# EAGLE library part FLE-108-01-G-DV-A (library FLE-108-01-G-DV-A)
Check prices <https://pricing.snapeda.com/parts/FLE-108-01-G-DV-A/Samtec/view-part?ref=eda>
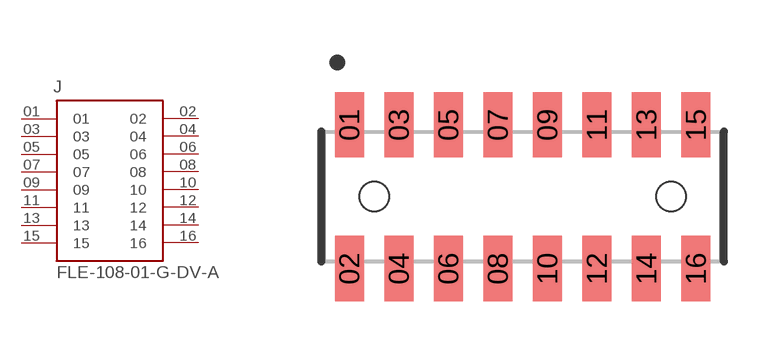
[diagram p0: symbol with the pads of SAMTEC_FLE-108-01-G-DV-A; footprint SAMTEC_FLE-108-01-G-DV-A]

Designator prefix J

## FLE-108-01-G-DV-A (AVAILABILITY: Bad; DESCRIPTION: 16 Position Receptacle Connector Surface Mount; MF: Samtec; MP: FLE-108-01-G-DV-A; PACKAGE: None; PRICE: None; PURCHASE-URL: https://pricing.snapeda.com/search/part/FLE-108-01-G-DV-A/?ref=eda)  [SAMTEC_FLE-108-01-G-DV-A]
01  01  pas
02  02  pas
03  03  pas
04  04  pas
05  05  pas
06  06  pas
07  07  pas
08  08  pas
09  09  pas
10  10  pas
11  11  pas
12  12  pas
13  13  pas
14  14  pas
15  15  pas
16  16  pas

## Footprint SAMTEC_FLE-108-01-G-DV-A (pad centres in mm)
smd 0.74 x 1.675: 01 -4.445,1.843; 02 -4.445,-1.843; 03 -3.175,1.843; 04 -3.175,-1.843; 05 -1.905,1.843; 06 -1.905,-1.843; 07 -0.635,1.843; 08 -0.635,-1.843; 09 0.635,1.843; 10 0.635,-1.843; 11 1.905,1.843; 12 1.905,-1.843; 13 3.175,1.843; 14 3.175,-1.843; 15 4.445,1.843; 16 4.445,-1.843
hole 0.76 at -3.81,0
hole 0.76 at 3.81,0